# EAGLE library part 74LVC1G18 (library Logic)
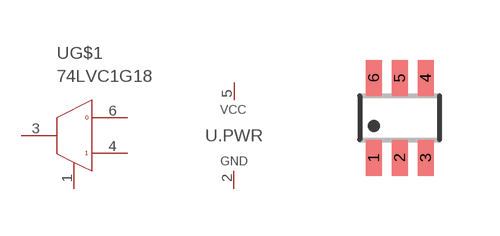
[diagram p4: symbol with the pads of SC70-6; footprint SC70-6]

Designator prefix U; gates .PWR=PWR G$1=DEMUX-2

## 74LVC1G18  [SC70-6]
1  G$1:SEL  in
2  .PWR:GND  pwr
3  G$1:A  in
4  G$1:Y1  out
5  .PWR:VCC  pwr
6  G$1:Y0  out

## Footprint SC70-6 (pad centres in mm)
smd 0.4 x 0.9: 1 -0.65,-1; 2 0,-1; 3 0.65,-1; 4 0.65,1; 5 0,1; 6 -0.65,1